# Altium schematic symbol library TDK.SchLib: 1 symbol
Pins are listed as number, name and electrical type; pins without a type are passive.

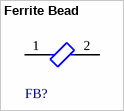
[diagram p0: symbol Ferrite Bead]

## Ferrite Bead
designator FB?  (value not drawn)
pins: 1, 2